# Altium footprint library PCB - POWER INDUCTORS - TDK VLCF4024-2.PCBLIB: 1 footprints
Each footprint in its own frame and in the unit in brackets; x right, y up, seen from the top. Pads: shape width x height; smd on the part's side, far side on the other; paste and mask are expansions set on the pad; w line width, h text height; cw(c..) or ccw(c..) is an arc to the next point about the centre after c.
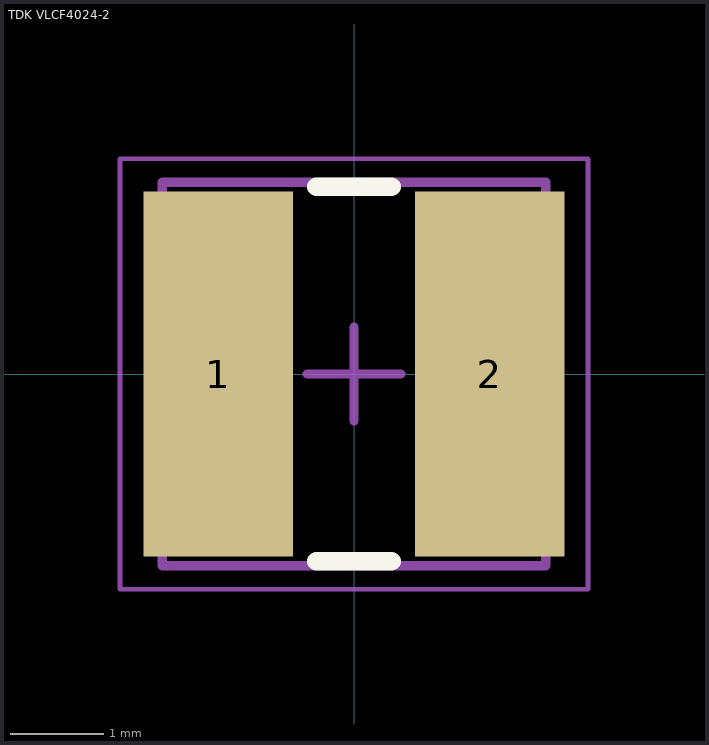
[diagram p0: the footprint, top view; thin cyan lines are the x and y axes]

## TDK VLCF4024-2 [mm] "Precision Wire Wound Inductor, 2-Leads, Body 4.00x4.00mm, IPC Medium Density"
height 2.4
pads (2):
  rect 1.6x3.9 smd: 1(-1.45,0) 2(1.45,0)
Top Overlay:
  lines w0.2: -0.4,-2 0.4,-2 ; -0.4,2 0.4,2
Mechanical 13:
  lines w0.1: -2.05,-2.05 -2.05,2.05 2.05,2.05 2.05,-2.05 -2.05,-2.05
Mechanical 15:
  lines w0.05: -2.5,-2.3 -2.5,2.3 2.5,2.3 2.5,-2.3 -2.5,-2.3
  lines w0.1: -0.5,0 0.5,0 ; 0,-0.5 0,0.5
3D body "TDK VLCF4024.STEP": height 2.4, standoff 0, extent -2.05,-2 2.05,2